# EAGLE library part TXS0108EPWR (library TXS0108EPWR)
8-Bit Bidirectional Voltage-Level Translator For Open-Drain And Push-Pull Application 20-TSSOP -40 to 85
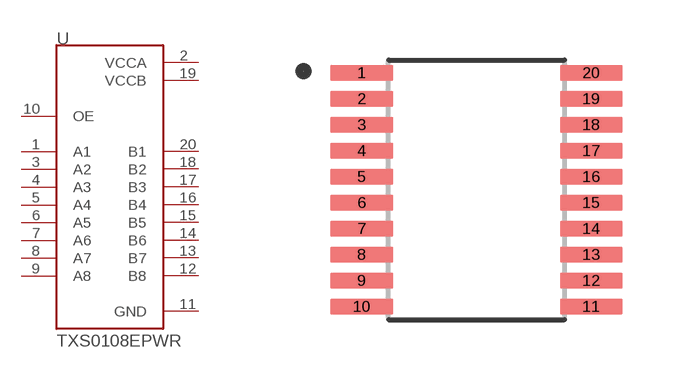
[diagram p0: symbol with the pads of SOP65P640X120-20N; footprint SOP65P640X120-20N]

Designator prefix U

## TXS0108EPWR (Availability: Unavailable; Description: 8-Bit Bidirectional Voltage-Level Translator For Open-Drain And Push-Pull Application 20-TSSOP -40 to 85; MF: Texas Instruments; MP: TXS0108EPWR; Package: TSSOP-20 Texas Instruments; Price: None)  [SOP65P640X120-20N]
1  A1
2  VCCA  pwr
3  A2
4  A3
5  A4
6  A5
7  A6
8  A7
9  A8
10  OE  in
11  GND  pwr
12  B8
13  B7
14  B6
15  B5
16  B4
17  B3
18  B2
19  VCCB  pwr
20  B1

## Footprint SOP65P640X120-20N (pad centres in mm)
smd 1.57 x 0.41: 1 -2.87,2.925; 2 -2.87,2.275; 3 -2.87,1.625; 4 -2.87,0.975; 5 -2.87,0.325; 6 -2.87,-0.325; 7 -2.87,-0.975; 8 -2.87,-1.625; 9 -2.87,-2.275; 10 -2.87,-2.925; 11 2.87,-2.925; 12 2.87,-2.275; 13 2.87,-1.625; 14 2.87,-0.975; 15 2.87,-0.325; 16 2.87,0.325; 17 2.87,0.975; 18 2.87,1.625; 19 2.87,2.275; 20 2.87,2.925